# EAGLE library part PIC10F222 (library RFID Reader Part Library)
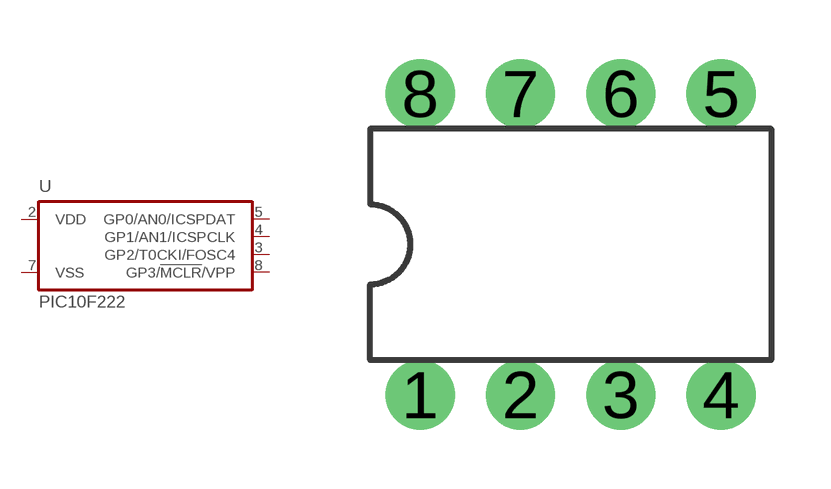
[diagram p4: symbol with the pads of DIL08; footprint DIL08]

Designator prefix U

## PIC10F222  [DIL08]
2  VDD  pwr
3  GP2/T0CKI/FOSC4
4  GP1/AN1/ICSPCLK  out
5  GP0/AN0/ICSPDAT
7  VSS  pwr
8  GP3/!MCLR!/VPP  in

## Footprint DIL08 (pad centres in mm)
Dual In Line Package
drill 0.813 pad 1.75 round: 1 -3.81,-3.81; 2 -1.27,-3.81; 3 1.27,-3.81; 4 3.81,-3.81; 5 3.81,3.81; 6 1.27,3.81; 7 -1.27,3.81; 8 -3.81,3.81